# Altium footprint library DIP-CN  0607.PcbLib: 329 footprints (part 9 of 21)
Each footprint in its own frame and in the unit in brackets; x right, y up, seen from the top. Pads: shape width x height; smd on the part's side, far side on the other; paste and mask are expansions set on the pad; w line width, h text height; cw(c..) or ccw(c..) is an arc to the next point about the centre after c.
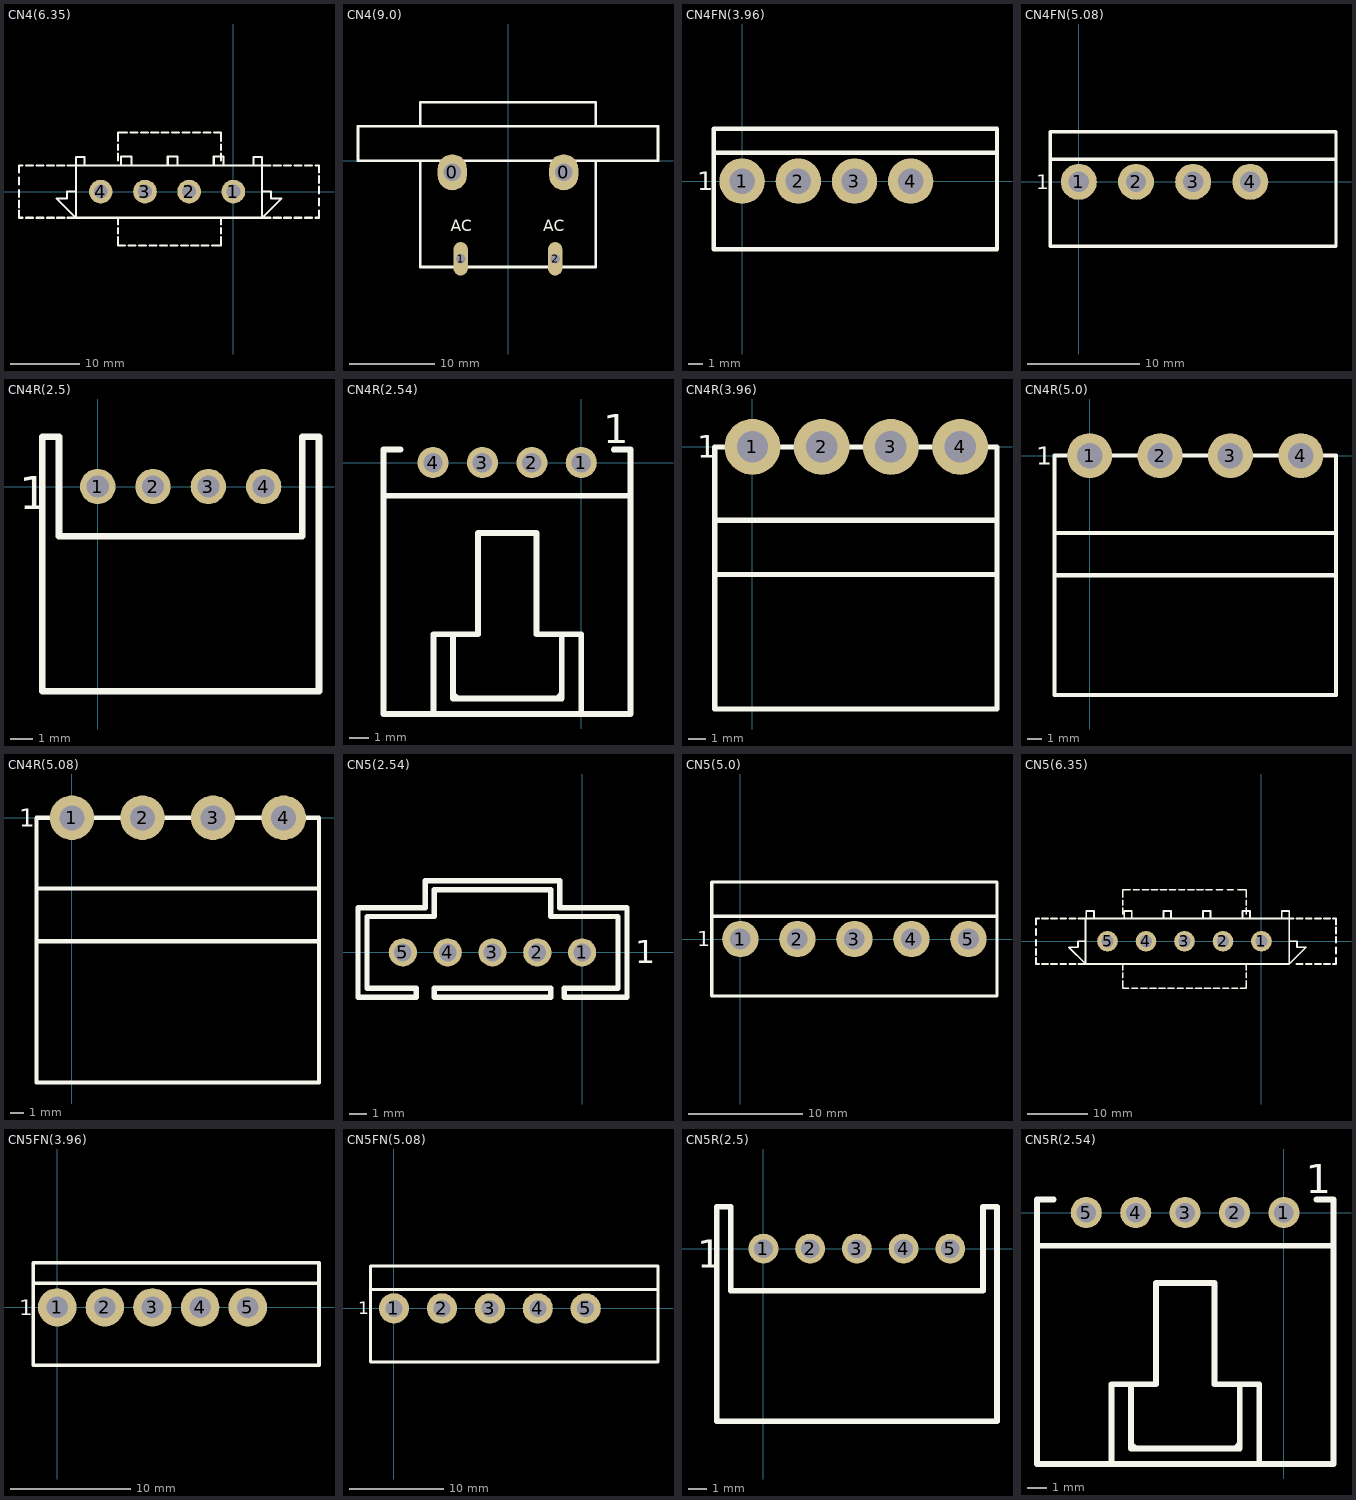
[diagram p8: the footprints below, top view; thin cyan lines are the x and y axes]

## CN4(6.35) [mm]
pads (4):
  round 3.4 hole 2: 1(0,0) 2(-6.35,0) 3(-12.7,0) 4(-19.059,0)
TopOverlay:
  lines w0.3: -30.8,-2.75 -30.8,-3.75 -30.3,-3.75 ; -30.8,-2.25 -30.8,-1.25 ; -30.8,-0.75 -30.8,0.25 ; -30.8,1 -30.8,2 ; -30.8,2.75 -30.8,3.75 -30.3,3.75 ; -29.8,-3.75 -28.8,-3.75 ; -29.8,3.75 -28.8,3.75 ; -28.3,-3.75 -27.3,-3.75 ; -28.3,3.75 -27.3,3.75 ; -26.8,-3.75 -25.8,-3.75 ; -26.8,3.75 -25.8,3.75 ; -25.3,-3.75 -24.3,-3.75 ; -25.3,3.75 -24.3,3.75 ; -23.8,-3.75 -22.625,-3.75 ; -23.8,3.75 -22.55,3.75 ; -22.625,0 -23.875,0 -23.875,-1 -24.125,-1 -25.375,-1 -22.625,-3.75 ; -21.375,3.75 -21.375,5 -22.625,5 -22.625,3.75 ; -16.55,-6.5 -16.55,-7.75 -15.55,-7.75 ; -16.55,-6 -16.55,-5.25 ; -16.55,-4.75 -16.55,-3.75 ; -16.55,4.5 -16.55,5.5 ; -16.55,6 -16.55,6.75 ; -16.55,7.25 -16.55,8.5 -15.3,8.5 ; -16.125,3.75 -16.125,5.05 ; -16.025,5.05 -14.625,5.05 -14.625,3.75 -14.625,5 ; -15.05,-7.75 -14.05,-7.75 ; -14.8,8.5 -13.8,8.5 ; -13.55,-7.75 -12.55,-7.75 ; -13.3,8.5 -12.3,8.5 ; -12.05,-7.75 -11.05,-7.75 ; -11.8,8.5 -10.8,8.5 ; -10.55,-7.75 -9.55,-7.75 ; -10.3,8.5 -9.3,8.5 ; -9.425,3.75 -9.425,5.05 -8.025,5.05 -8.025,3.75 ; -9.05,-7.75 -8.05,-7.75 ; -8.8,8.5 -7.8,8.5 ; -7.55,-7.75 -6.55,-7.75 ; -7.3,8.5 -6.3,8.5 ; -6.05,-7.75 -5.05,-7.75 ; -5.8,8.5 -4.8,8.5 ; -4.55,-7.75 -3.55,-7.75 ; -4.3,8.5 -3.3,8.5 ; -3.05,-7.75 -1.8,-7.75 -1.8,-6.5 ; -2.825,3.75 -2.825,5.05 -1.425,5.05 -1.425,3.75 ; -2.8,8.5 -1.8,8.5 -1.8,7.25 ; -1.8,-6 -1.8,-5.25 ; -1.8,-4.75 -1.8,-3.75 ; -1.8,4.5 -1.8,5.5 ; -1.8,6 -1.8,6.75 ; 2.875,3.75 2.875,5 4.125,5 4.125,3.75 ; 4.05,-3.75 5.3,-3.75 ; 4.125,0 5.375,0 5.375,-1 5.625,-1 6.875,-1 4.125,-3.75 ; 5.3,3.75 4.125,3.75 ; 5.8,-3.75 6.8,-3.75 ; 5.8,3.75 6.8,3.75 ; 7.3,-3.75 8.3,-3.75 ; 7.3,3.75 8.3,3.75 ; 8.8,-3.75 9.8,-3.75 ; 8.8,3.75 9.8,3.75 ; 10.3,-3.75 11.3,-3.75 ; 10.3,3.75 11.3,3.75 ; 11.8,-3.75 12.3,-3.75 12.3,-2.75 ; 11.8,3.75 12.3,3.75 12.3,2.75 ; 12.3,-2 12.3,-1 ; 12.3,-0.25 12.3,0.75 ; 12.3,1.25 12.3,2.25 ; -22.625,-3.75 4.125,-3.75 ; -22.625,-3.75 -22.625,3.75 ; -22.625,3.75 4.125,3.75 ; 4.125,-3.75 4.125,3.75

## CN4(9.0) [mm]
pads (4):
  oval 3.4x4.2 hole 2: 0(-6.5,-1.35) 0(6.5,-1.35)
  oval 1.7x3.9 hole 1.1: 1(-5.525,-11.45) 2(5.5,-11.45)
TopOverlay:
  lines w0.3: -10.25,0 -10.25,-12.4 10.25,-12.4 10.25,0 ; -10.25,4 -10.25,6.8 10.25,6.8 10.25,4 ; -17.5,0 17.5,0 17.5,4 -17.5,4 -17.5,0
  text "AC" at -6.705,-8.255 h1.3
  text "AC" at 4.09,-8.255 h1.3
DrillDrawing:
  lines w0.3: -7.5,-1.35 -5.5,-1.35 ; -6.5,-2.7 -6.5,0 ; -6.075,-11.45 -4.975,-11.45 ; -5.525,-12.7 -5.525,-10.2 ; 4.95,-11.45 6.05,-11.45 ; 5.5,-12.7 5.5,-10.2 ; 5.5,-1.35 7.5,-1.35 ; 6.5,-2.7 6.5,0 ; -7.5,-2.7 -7.5,0 -5.5,0 -5.5,-2.7 -7.5,-2.7 ; -6.075,-12.7 -6.075,-10.2 -4.975,-10.2 -4.975,-12.7 -6.075,-12.7 ; 4.95,-12.7 4.95,-10.2 6.05,-10.2 6.05,-12.7 4.95,-12.7 ; 5.5,-2.7 5.5,0 7.5,0 7.5,-2.7 5.5,-2.7
  text "2X2.7mm" at -9.88,-4.445 h1.3
  text "1.1X2.5mm" at -9.88,-9.525 h1.3
  text "1.1X2.5mm" at 0.915,-9.525 h1.3
  text "2X2.7mm" at 1.55,-4.445 h1.3

## CN4FN(3.96) [mm]
pads (4):
  round 3.2 hole 1.8: 1(0,0) 2(3.96,0) 3(7.92,0) 4(11.88,0)
TopOverlay:
  lines w0.3: -2,2 17.928,2 ; -2,-4.8 17.96,-4.8 17.96,3.7 -2,3.7 -2,-4.8
  text "1" at -3.175,-0.635 h1.3

## CN4FN(5.08) [mm]
pads (4):
  round 3.2 hole 1.8: 1(0,0) 2(5.08,0) 3(10.16,0) 4(15.24,0)
TopOverlay:
  lines w0.3: -2.54,2.01 22.838,2.01 ; -2.54,-5.715 -2.54,4.445 22.86,4.445 22.86,-5.715 -2.54,-5.715
  text "1" at -3.81,-0.635 h1.3

## CN4R(2.5) [mm]
pads (4):
  round 1.6 hole 1: 1(0,0) 2(2.5,0) 3(5,0) 4(7.5,0)
TopOverlay:
  lines w0.3: -2.5,-9.25 10,-9.25 10,2.25 9.25,2.25 9.25,-2.25 -1.75,-2.25 -1.75,2.25 -2.5,2.25 -2.5,-9.25
  text "1" at -3.556,-1.016 h1.5
BottomOverlay:
  lines w0.3: 1.27,-1.009 1.27,0.991 ; 3.759,-1.016 3.759,0.984 ; 6.248,-1.016 6.248,0.984

## CN4R(2.54) [mm]
pads (4):
  round 1.6 hole 1: 1(0,0) 2(-2.54,0) 3(-5.08,0) 4(-7.62,0)
TopOverlay:
  lines w0.2: -6.6,-11.624 ccw(c-6.1,-11.624) -6.1,-12.124 ; -1.5,-12.124 ccw(c-1.5,-11.624) -1,-11.624
  lines w0.3: -10.16,-12.92 -10.16,0.68 -9.29,0.68 ; -10.12,-1.7 2.5,-1.7 ; -10.08,-12.92 2.54,-12.92 2.54,0.68 1.67,0.68 ; -7.6,-12.824 -7.6,-10.124 -7.6,-8.824 -6.6,-8.824 ; 0,-12.824 0,-8.824 -1,-8.824 ; -6.6,-8.824 -5.3,-8.824 -5.3,-3.624 -2.3,-3.624 -2.3,-8.824 -1,-8.824 ; -6.6,-8.824 -6.6,-12.124 -1,-12.124 -1,-8.824
  text "1" at 1.13,1 h1.5
BottomOverlay:
  lines w0.3: -6.35,-0.813 -6.35,0.787 ; -3.81,-0.813 -3.81,0.787 ; -1.27,-0.813 -1.27,0.787

## CN4R(3.96) [mm]
pads (4):
  round 3.2 hole 1.8: 1(0,0) 2(3.96,0) 3(7.92,0) 4(11.88,0)
TopOverlay:
  lines w0.3: -2.161,-7.3 13.989,-7.3 ; -2.161,-4.2 13.989,-4.2 ; -2.161,0 -2.161,-15 13.989,-15 13.989,0 -2.105,0
  text "1" at -3.175,-0.635 h1.3

## CN4R(5.0) [mm]
pads (4):
  round 3.2 hole 1.8: 1(0,0) 2(5,0) 3(10,0) 4(15,0)
TopOverlay:
  lines w0.3: -2.5,-8.5 17.5,-8.5 ; -2.5,-5.5 17.5,-5.5 ; -2.5,-17 -2.5,0 17.5,0 17.5,-17 -2.5,-17
  text "1" at -3.81,-0.635 h1.3

## CN4R(5.08) [mm]
pads (4):
  round 3.2 hole 1.8: 1(0,0) 2(5.08,0) 3(10.16,0) 4(15.24,0)
TopOverlay:
  lines w0.3: -2.54,-8.89 17.78,-8.89 ; -2.54,-5.08 17.78,-5.08 ; -2.54,-19.05 -2.54,0 17.78,0 17.78,-19.05 -2.54,-19.05
  text "1" at -3.81,-0.635 h1.3

## CN5(2.54) [mm]
pads (5):
  round 1.6 hole 1: 1(0,0) 2(-2.54,0) 3(-5.08,0) 4(-7.62,0) 5(-10.16,0)
TopOverlay:
  lines w0.3: -12.7,-2.54 -9.398,-2.54 -9.398,-2.032 -12.192,-2.032 -12.192,2.032 -8.382,2.032 -8.382,3.556 -1.778,3.556 -1.778,2.032 2.032,2.032 2.032,-2.032 -1.016,-2.032 -1.016,-2.54 2.54,-2.54 2.54,2.54 -1.27,2.54 -1.27,4.064 -8.89,4.064 -8.89,2.54 -12.7,2.54 -12.7,-2.54 ; -8.382,-2.54 -8.382,-2.032 -1.778,-2.032 -1.778,-2.54 -8.382,-2.54
  text "1" at 3,-0.6 h1.3
BottomOverlay:
  lines w0.3: -8.89,-1.27 -8.89,1.27 ; -6.35,-1.27 -6.35,1.27 ; -3.81,-1.27 -3.81,1.27 ; -1.27,-1.27 -1.27,1.27

## CN5(5.0) [mm]
pads (5):
  round 3.2 hole 1.8: 1(0,0) 2(5,0) 3(10,0) 4(15,0) 5(20,0)
TopOverlay:
  lines w0.3: -2.5,2 22.5,2 ; -2.5,-5 22.5,-5 22.5,5 -2.5,5 -2.5,-5
  text "1" at -3.81,-0.635 h1.3

## CN5(6.35) [mm]
pads (5):
  round 3.4 hole 2: 1(0,0) 2(-6.35,0) 3(-12.7,0) 4(-19.05,0) 5(-25.4,0)
TopOverlay:
  lines w0.3: -37.2,-2.75 -37.2,-3.75 -36.7,-3.75 ; -37.2,-2.25 -37.2,-1.25 ; -37.2,-0.75 -37.2,0.25 ; -37.2,1 -37.2,2 ; -37.2,2.75 -37.2,3.75 -36.7,3.75 ; -36.2,-3.75 -35.2,-3.75 ; -36.2,3.75 -35.2,3.75 ; -34.7,-3.75 -33.7,-3.75 ; -34.7,3.75 -33.7,3.75 ; -33.2,-3.75 -32.2,-3.75 ; -33.2,3.75 -32.2,3.75 ; -31.7,-3.75 -30.7,-3.75 ; -31.7,3.75 -30.7,3.75 ; -30.2,-3.75 -29.025,-3.75 ; -30.2,3.75 -28.95,3.75 ; -29.025,0 -30.275,0 -30.275,-1 -30.525,-1 -31.775,-1 -29.025,-3.75 ; -29.025,3.75 -29.025,-3.75 ; -28.9,-3.75 4.6,-3.75 ; -27.65,3.75 -27.65,5 -28.9,5 -28.9,3.75 -1.9,3.75 ; -22.891,-6.5 -22.891,-7.75 -21.891,-7.75 ; -22.891,-6 -22.891,-5.25 ; -22.891,-4.75 -22.891,-3.75 ; -22.891,4.5 -22.891,5.5 ; -22.891,6 -22.891,6.75 ; -22.891,7.25 -22.891,8.5 -21.641,8.5 ; -22.65,3.75 -22.65,5 -21.4,5 -21.4,3.75 ; -21.4,-7.75 -20.4,-7.75 ; -21.15,8.5 -20.15,8.5 ; -19.9,-7.75 -18.9,-7.75 ; -19.65,8.5 -18.65,8.5 ; -18.4,-7.75 -17.4,-7.75 ; -18.15,8.5 -17.15,8.5 ; -16.9,-7.75 -15.9,-7.75 ; -16.65,8.5 -15.65,8.5 ; -16.15,3.75 -16.15,5 -14.9,5 -14.9,3.75 ; -15.4,-7.75 -14.4,-7.75 ; -15.15,8.5 -14.15,8.5 ; -13.9,-7.75 -12.9,-7.75 ; -13.65,8.5 -12.65,8.5 ; -12.4,-7.75 -11.4,-7.75 ; -12.15,8.5 -11.15,8.5 ; -10.9,-7.75 -9.9,-7.75 ; -10.65,8.5 -9.65,8.5 ; -9.65,3.75 -9.65,5 -8.4,5 -8.4,3.75 ; -9.4,-7.75 -8.4,-7.75 ; -9.15,8.5 -8.15,8.5 ; -7.9,-7.75 -6.9,-7.75 ; -7.4,8.5 -6.4,8.5 ; -6.4,-7.75 -5.4,-7.75 ; -5.65,8.5 -4.65,8.5 ; -4.9,-7.75 -3.9,-7.75 ; -3.9,8.5 -2.65,8.5 ; -3.509,-7.75 -2.509,-7.75 -2.509,-6.5 ; -3.15,3.75 -3.15,5 -1.9,5 -1.9,3.75 ; -2.509,-6 -2.509,-5.25 ; -2.509,-4.75 -2.509,-3.75 ; -2.509,4.5 -2.509,5.5 ; -2.509,6 -2.509,6.75 ; -2.509,7.25 -2.509,8.5 ; 3.35,3.75 3.35,5 4.6,5 4.6,3.75 ; 4.125,3.75 5.3,3.75 ; 4.6,0 5.85,0 5.85,-1 7.35,-1 4.6,-3.75 ; 5.8,-3.75 6.8,-3.75 ; 5.8,3.75 6.8,3.75 ; 7.3,-3.75 8.3,-3.75 ; 7.3,3.75 8.3,3.75 ; 8.8,-3.75 9.8,-3.75 ; 8.8,3.75 9.8,3.75 ; 10.3,-3.75 11.3,-3.75 ; 10.3,3.75 11.3,3.75 ; 11.8,-3.75 12.3,-3.75 12.3,-2.75 ; 11.8,3.75 12.3,3.75 12.3,2.75 ; 12.3,-2 12.3,-1 ; 12.3,-0.25 12.3,0.75 ; 12.3,1.25 12.3,2.25 ; -1.9,3.75 4.6,3.75 ; 4.6,-3.75 4.6,3.75

## CN5FN(3.96) [mm]
pads (5):
  round 3.2 hole 1.8: 1(0,0) 2(3.96,0) 3(7.92,0) 4(11.88,0) 5(15.84,0)
TopOverlay:
  lines w0.3: -2,2 21.728,2 ; -2,-4.8 -2,3.7 21.76,3.7 21.76,-4.8 -2,-4.8
  text "1" at -3.175,-0.635 h1.3

## CN5FN(5.08) [mm]
pads (5):
  round 3.2 hole 1.8: 1(0,0) 2(5.08,0) 3(10.16,0) 4(15.24,0) 5(20.32,0)
TopOverlay:
  lines w0.3: -2.5,2 27.948,2 ; -2.5,-5.7 27.98,-5.7 27.98,4.5 -2.5,4.5 -2.5,-5.7
  text "1" at -3.81,-0.635 h1.3

## CN5R(2.5) [mm]
pads (5):
  round 1.6 hole 1: 1(0,0) 2(2.5,0) 3(5,0) 4(7.5,0) 5(10,0)
TopOverlay:
  lines w0.3: -2.5,-9.25 12.5,-9.25 12.5,2.25 11.75,2.25 11.75,-2.25 -1.75,-2.25 -1.75,2.25 -2.5,2.25 -2.5,-9.25
  text "1" at -3.556,-1.016 h1.5
BottomOverlay:
  lines w0.3: 1.27,-1.009 1.27,0.991 ; 3.759,-1.016 3.759,0.984 ; 6.27,-1.009 6.27,0.991 ; 8.759,-1.016 8.759,0.984

## CN5R(2.54) [mm]
pads (5):
  round 1.6 hole 1: 1(0,0) 2(-2.54,0) 3(-5.08,0) 4(-7.62,0) 5(-10.16,0)
TopOverlay:
  lines w0.2: -7.87,-11.624 ccw(c-7.37,-11.624) -7.37,-12.124 ; -2.77,-12.124 ccw(c-2.77,-11.624) -2.27,-11.624
  lines w0.3: -12.698,-1.7 -10.12,-1.7 2.5,-1.7 ; -11.83,0.68 -12.7,0.68 -12.7,-12.92 2.54,-12.92 2.54,0.68 1.67,0.68 ; -8.87,-12.824 -8.87,-10.124 -8.87,-8.824 -7.87,-8.824 ; -1.27,-12.824 -1.27,-8.824 -2.27,-8.824 ; -7.87,-8.824 -7.87,-12.124 -2.27,-12.124 -2.27,-8.824 ; -7.87,-8.824 -6.57,-8.824 -6.57,-3.624 -3.57,-3.624 -3.57,-8.824 -2.27,-8.824
  text "1" at 1.13,1 h1.5
BottomOverlay:
  lines w0.3: -8.89,-0.813 -8.89,0.787 ; -6.35,-0.813 -6.35,0.787 ; -3.81,-0.813 -3.81,0.787 ; -1.27,-0.813 -1.27,0.787